# Altium integrated library CH7107B.IntLib: 1 symbol
Pins are listed as number, name and electrical type; pins without a type are passive.

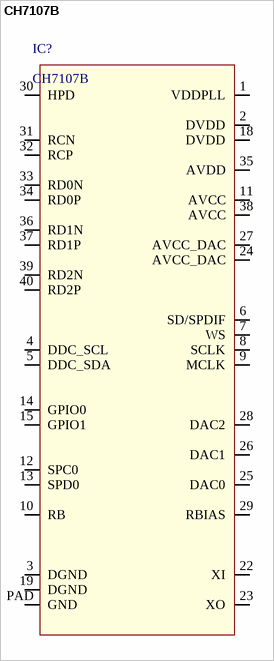
[diagram p0: symbol CH7107B]

## CH7107B
designator IC?
PDF: *; BUY_LINK: *; PRICE: *; ID: CH7107B
footprint QFN40
pins: 1 VDDPLL, 2 DVDD, 3 DGND, 4 DDC_SCL, 5 DDC_SDA, 6 SD/SPDIF, 7 WS, 8 SCLK, 9 MCLK, 10 RB, 11 AVCC, 12 SPC0, 13 SPD0, 14 GPIO0, 15 GPIO1, 18 DVDD, 19 DGND, 22 XI, 23 XO, 24 AVCC_DAC, 25 DAC0, 26 DAC1, 27 AVCC_DAC, 28 DAC2, 29 RBIAS, 30 HPD, 31 RCN, 32 RCP, 33 RD0N, 34 RD0P, 35 AVDD, 36 RD1N, 37 RD1P, 38 AVCC, 39 RD2N, 40 RD2P, PAD GND